# Altium schematic symbol library SCH - POWER - LINEAR VREG - TI TLE4275-Q1_KVU_5.SchLib: 1 symbol
Pins are listed as number, name and electrical type; pins without a type are passive.

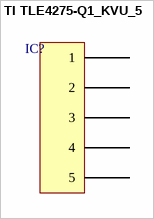
[diagram p0: symbol TI TLE4275-Q1_KVU_5]

## TI TLE4275-Q1_KVU_5
designator IC?  (value not drawn)
pins: ?1 1, ?2 2, ?3 3, ?4 4, ?5 5